# Altium footprint library Texas_Instruments.PcbLib: 55 footprints (part 4 of 4)
Each footprint in its own frame and in the unit in brackets; x right, y up, seen from the top. Pads: shape width x height; smd on the part's side, far side on the other; paste and mask are expansions set on the pad; w line width, h text height; cw(c..) or ccw(c..) is an arc to the next point about the centre after c.
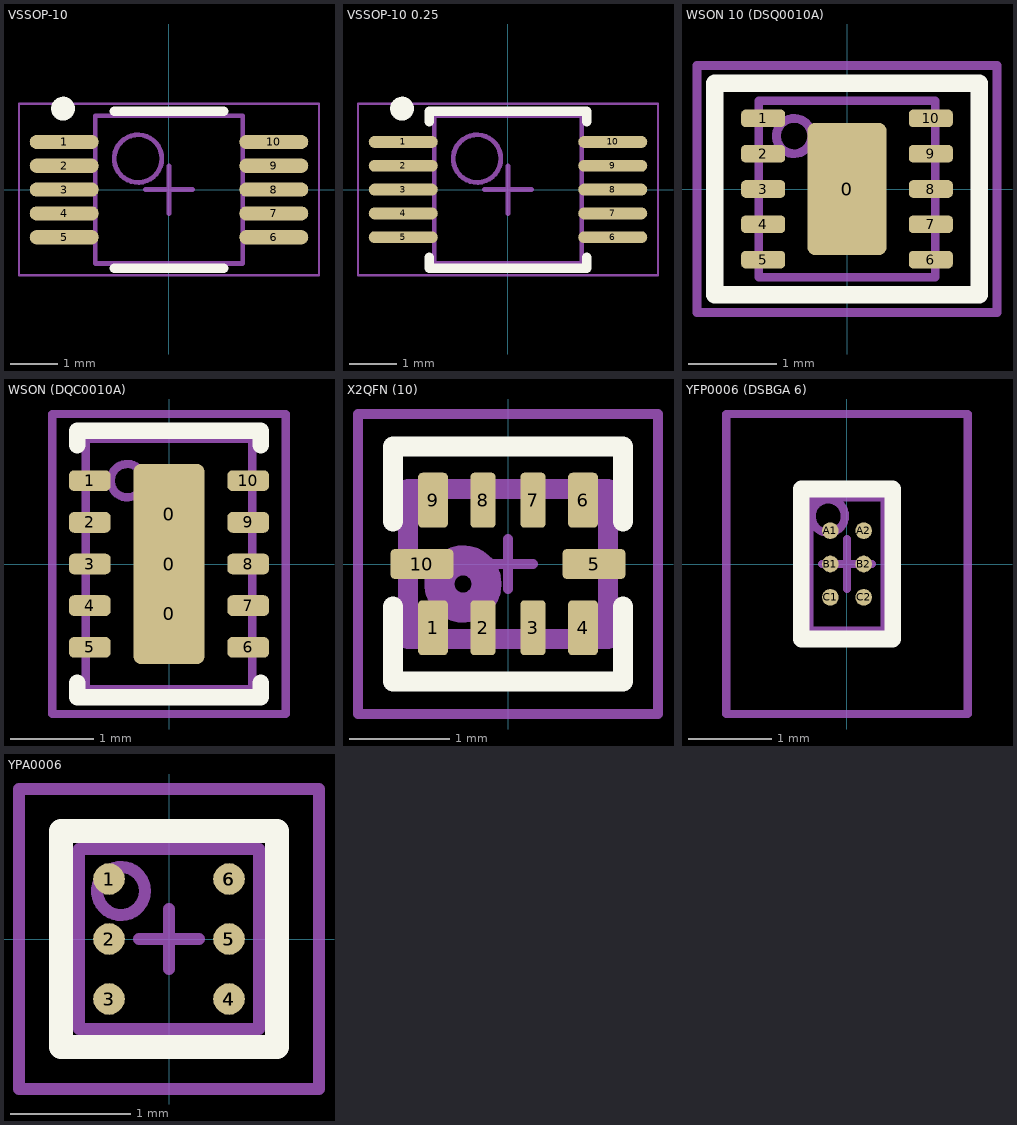
[diagram p3: the footprints below, top view; thin cyan lines are the x and y axes]

## VSSOP-10 [mm] "TSSOP, 10-Leads, Body 3,00x3,00mm, Pitch 0,50mm, IPC Medium Density"
height 1.1
pads (10):
  oval 1.45x0.3 smd: 1(-2.2,1) 2(-2.2,0.5) 3(-2.2,0) 4(-2.2,-0.5) 5(-2.2,-1) 6(2.2,-1) 7(2.2,-0.5) 8(2.2,0) 9(2.2,0.5) 10(2.2,1)
Top Overlay:
  circle w0.25: c-2.225,1.7 r0.125
  lines w0.2: -1.15,-1.65 1.15,-1.65 ; -1.15,1.65 1.15,1.65
Mechanical 13:
  circle w0.1: c-0.65,0.65 r0.5
  lines w0.1: -1.55,-1.55 1.55,-1.55 1.55,1.55 -1.55,1.55 -1.55,-1.55
Mechanical 15:
  lines w0.05: -3.15,-1.8 3.15,-1.8 3.15,1.8 -3.15,1.8 -3.15,-1.8
  lines w0.1: -0.5,0 0.5,0 ; 0,-0.5 0,0.5
3D body: height 1.1, standoff 0, extent -2.45,-1.55 2.45,1.55

## VSSOP-10 0.25 [mm] "TSSOP, 10-Leads, Body 3,00x3,00mm, Pitch 0,50mm, IPC Medium Density"
height 1.1
pads (10):
  oval 1.45x0.25 smd: 1(-2.2,1) 2(-2.2,0.5) 3(-2.2,0) 4(-2.2,-0.5) 5(-2.2,-1) 6(2.2,-1) 7(2.2,-0.5) 8(2.2,0) 9(2.2,0.5) 10(2.2,1)
Top Overlay:
  circle w0.25: c-2.225,1.7 r0.125
  lines w0.2: -1.65,-1.425 -1.65,-1.65 -1.15,-1.65 1.15,-1.65 1.65,-1.65 1.65,-1.425 ; -1.65,1.425 -1.65,1.65 -1.15,1.65 1.15,1.65 1.65,1.65 1.65,1.425
Mechanical 13:
  circle w0.1: c-0.65,0.65 r0.5
  lines w0.1: -1.55,-1.55 -1.55,1.55 1.55,1.55 1.55,-1.55 -1.55,-1.55
Mechanical 15:
  lines w0.05: -3.15,-1.8 -3.15,1.8 3.15,1.8 3.15,-1.8 -3.15,-1.8
  lines w0.1: -0.5,0 0.5,0 ; 0,-0.5 0,0.5
3D body: height 1.1, standoff 0, extent -2.45,-1.55 2.45,1.55

## WSON 10 (DSQ0010A) [mm]
height 0.8
pads (11):
  rrect20% 0.9x1.5 smd: 0(0,0)
  rrect50% 0.5x0.2 smd: 1(-0.95,0.8) 2(-0.95,0.4) 3(-0.95,0) 4(-0.95,-0.4) 5(-0.95,-0.8) 6(0.95,-0.8) 7(0.95,-0.4) 8(0.95,0) 9(0.95,0.4) 10(0.95,0.8)
Top Overlay:
  lines w0.2: -1.5,-1.2 -1.5,1.2 1.5,1.2 1.5,-1.2 -1.5,-1.2
Mechanical 13:
  circle w0.1: c-0.6,0.6 r0.2
  lines w0.1: -1,-1 1,-1 1,1 -1,1 -1,-1
Mechanical 15:
  lines w0.1: -0.3,0 0.3,0 ; 0,-0.3 0,0.3 ; -1.7,-1.4 1.7,-1.4 1.7,1.4 -1.7,1.4 -1.7,-1.4
3D body: height 0.8, standoff 0, extent -1,-1 1,1

## WSON (DQC0010A) [mm]
pads (13):
  rrect20% 0.85x1 smd: 0(0,-0.6) 0(0,0.6)
  rrect20% 0.85x2.4 smd paste-3: 0(0,0)
  rrect50% 0.5x0.25 smd: 1(-0.95,1) 2(-0.95,0.5) 3(-0.95,0) 4(-0.95,-0.5) 5(-0.95,-1) 6(0.95,-1) 7(0.95,-0.5) 8(0.95,0) 9(0.95,0.5) 10(0.95,1)
Top Overlay:
  lines w0.2: -1.1,-1.425 -1.1,-1.6 1.1,-1.6 1.1,-1.425 ; -1.1,1.425 -1.1,1.6 1.1,1.6 1.1,1.425
Mechanical 13:
  circle w0.1: c-0.5,1 r0.2
  lines w0.1: -1,-1.5 -1,1.5 1,1.5 1,-1.5 -1,-1.5
Mechanical 15:
  lines w0.1: -0.2,0 0.2,0 ; 0,-0.2 0,0.2 ; -1.4,-1.8 1.4,-1.8 1.4,1.8 -1.4,1.8 -1.4,-1.8
3D body: height 0.8, standoff 0, extent -1,-1.5 1,1.5
3D body: height 0.85, standoff 0, extent -0.698,0.8 -0.3,1.2

## X2QFN (10) [mm] "X2QFN (10),  1.50 mm × 2.00 mm"
pads (10):
  rrect30% 0.3x0.55 smd: 1(-0.75,-0.637) 4(0.75,-0.637) 6(0.75,0.638) 9(-0.75,0.638)
  rrect30% 0.25x0.55 smd: 2(-0.25,-0.637) 3(0.25,-0.637) 7(0.25,0.638) 8(-0.25,0.638)
  rrect30% 0.63x0.3 smd: 5(0.86,0) 10(-0.86,0)
Top Overlay:
  lines w0.2: -1.15,-0.425 -1.15,-1.175 1.15,-1.175 1.15,-0.425 ; -1.15,0.425 -1.15,1.175 1.15,1.175 1.15,0.425
Mechanical 13:
  circle w0.3: c-0.45,-0.2 r0.236
  lines w0.2: -1,-0.75 -1,0.75 1,0.75 1,-0.75 -1,-0.75
Mechanical 15:
  lines w0.1: -0.25,0 0.25,0 ; 0,-0.25 0,0.25 ; -1.5,-1.5 -1.5,1.5 1.5,1.5 1.5,-1.5 -1.5,-1.5
3D body: height 0.38, standoff -0.02, extent -1,-0.75 1,0.75

## YFP0006 (DSBGA 6) [mm]
height 0.5
pads (12):
  round 0.2 smd: A1(-0.2,0.4) A2(0.2,0.4) B1(-0.2,0) B2(0.2,0) C1(-0.2,-0.4) C2(0.2,-0.4)
  rrect10% 0.1x0.1 smd paste+0.075: A1(-0.2,0.4) A2(0.2,0.4) B1(-0.2,0) B2(0.2,0) C1(-0.2,-0.4) C2(0.2,-0.4)
Top Overlay:
  lines w0.2: -0.55,-0.9 0.55,-0.9 0.55,0.9 -0.55,0.9 -0.55,-0.9
Mechanical 13:
  circle w0.1: c-0.225,0.575 r0.2
  lines w0.1: -0.45,-0.8 -0.45,0.8 0.45,0.8 0.45,-0.8 -0.45,-0.8
Mechanical 15:
  lines w0.1: -0.3,0 0.3,0 ; 0,-0.3 0,0.3 ; -1.45,-1.8 -1.45,1.8 1.45,1.8 1.45,-1.8 -1.45,-1.8
3D body: height 0.5, standoff 0, extent -0.45,-0.8 0.45,0.8

## YPA0006 [mm] "DSBGA, wide, 1.45x1.45 - 0.675 mm max height"
height 0.675
pads (12):
  rrect50% 0.25x0.25 on Top Paste: 1(-0.5,0.5) 2(-0.5,0) 3(-0.5,-0.5) 4(0.5,-0.5) 5(0.5,0) 6(0.5,0.5)
  round 0.263 smd: 1(-0.5,0.5) 2(-0.5,0) 3(-0.5,-0.5) 4(0.5,-0.5) 5(0.5,0) 6(0.5,0.5)
Top Overlay:
  lines w0.2: -0.9,-0.9 0.9,-0.9 0.9,0.9 -0.9,0.9 -0.9,-0.9
Mechanical 13:
  circle w0.1: c-0.4,0.4 r0.2
  lines w0.1: -0.75,-0.75 -0.75,0.75 0.75,0.75 0.75,-0.75 -0.75,-0.75
Mechanical 15:
  lines w0.1: -0.25,0 0.25,0 ; 0,-0.25 0,0.25 ; -1.25,-1.25 -1.25,1.25 1.25,1.25 1.25,-1.25 -1.25,-1.25
3D body: height 0.67, standoff 0, extent -0.75,-0.75 0.75,0.75